# Altium schematic symbol library MD_DCDC.SchLib: 3 symbols
Pins are listed as number, name and electrical type; pins without a type are passive.

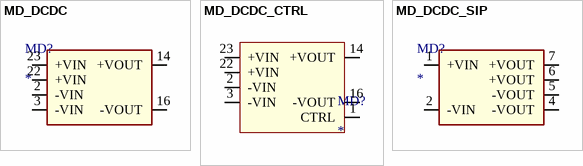
[diagram p0: symbols MD_DCDC to MD_DCDC_SIP]

## MD_DCDC
designator MD?
pins: 2 -VIN, 3 -VIN, 14 +VOUT, 16 -VOUT, 22 +VIN, 23 +VIN

## MD_DCDC_CTRL
designator MD?
pins: 1 CTRL, 2 -VIN, 3 -VIN, 14 +VOUT, 16 -VOUT, 22 +VIN, 23 +VIN

## MD_DCDC_SIP
designator MD?
pins: 1 +VIN, 2 -VIN, 4 -VOUT, 5 -VOUT, 6 +VOUT, 7 +VOUT